# Altium footprint library Coilcraft_XAL1010.PcbLib: 1 footprints
Each footprint in its own frame and in the unit in brackets; x right, y up, seen from the top. Pads: shape width x height; smd on the part's side, far side on the other; paste and mask are expansions set on the pad; w line width, h text height; cw(c..) or ccw(c..) is an arc to the next point about the centre after c.
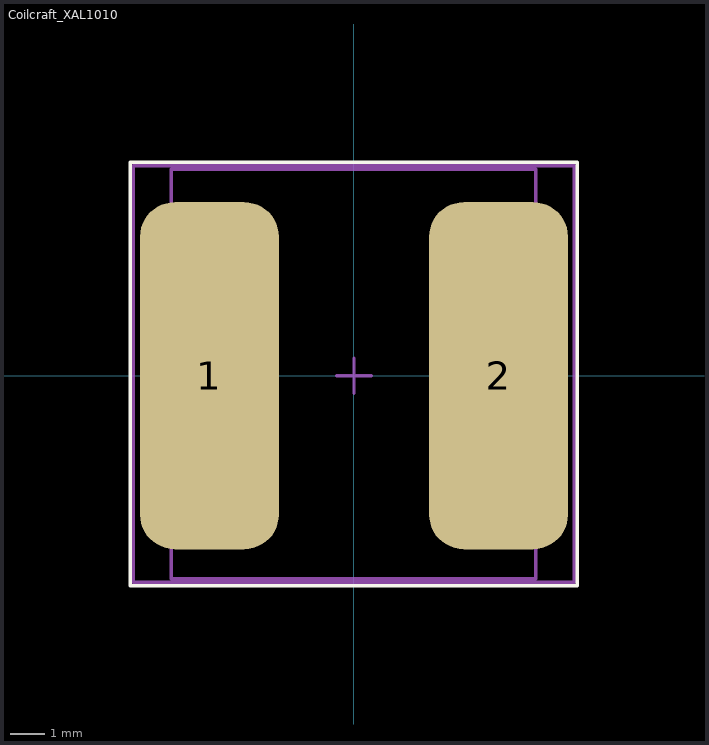
[diagram p0: the footprint, top view; thin cyan lines are the x and y axes]

## Coilcraft_XAL1010 [mm] "Coilcraft XAL1010 Coil"
height 10
pads (2):
  rrect50% 4x10 smd: 1(-4.162,0) 2(4.163,0)
Top Overlay:
  lines w0.1: -6.45,-6.05 6.425,-6.05 6.425,6.15 -6.45,6.15 -6.45,-6.05
Mechanical 13:
  lines w0.1: -5.262,-5.85 5.238,-5.85 5.238,5.95 -5.262,5.95 -5.262,-5.85
Mechanical 15:
  lines w0.1: -0.5,0 0.5,0 ; 0,-0.5 0,0.5 ; -6.362,-5.95 -6.362,6.05 6.338,6.05 6.338,-5.95 -6.362,-5.95
3D body "Coilcraft-XAL1010-472-DEFAULT.STEP": height 9.9, standoff -0.1, extent -5.263,-5.85 5.238,5.95